# Altium footprint library Conn.Molex.PcbLib: 79 footprints (part 4 of 5)
Each footprint in its own frame and in the unit in brackets; x right, y up, seen from the top. Pads: shape width x height; smd on the part's side, far side on the other; paste and mask are expansions set on the pad; w line width, h text height; cw(c..) or ccw(c..) is an arc to the next point about the centre after c.
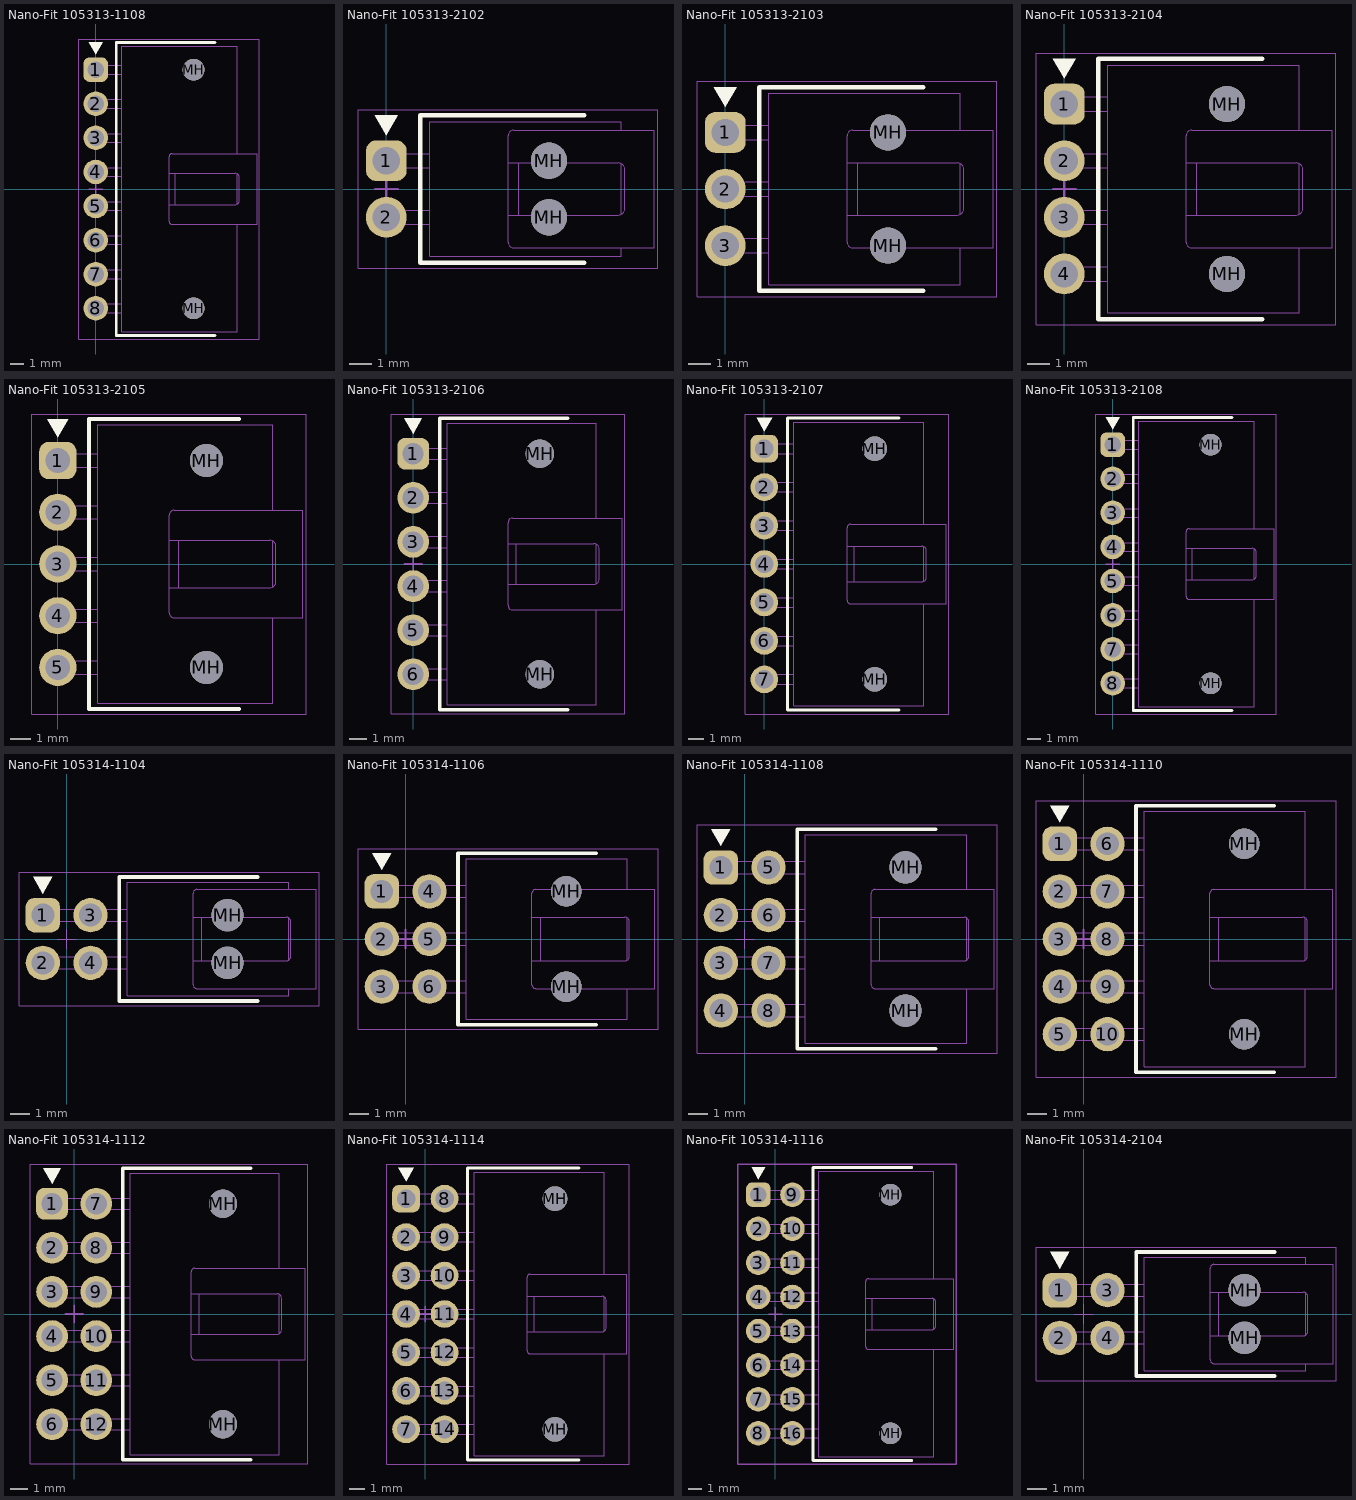
[diagram p3: the footprints below, top view; thin cyan lines are the x and y axes]

## Nano-Fit 105313-1108 [mm] "Molex Nano-Fit Header, 8-Pin, 2.5mm Pitch"
height 6.64
pads (10):
  rrect50% 1.8x1.8 hole 1.2: 1(0,8.75)
  round 1.8 hole 1.2: 2(0,6.25) 3(0,3.75) 4(0,1.25) 5(0,-1.25) 6(0,-3.75) 7(0,-6.25) 8(0,-8.75)
  round 1.6 hole 1.6 unplated: MH(7.18,-8.75) MH(7.18,8.75)
Top Overlay:
  region: 0,9.884 0.5,10.75 -0.5,10.75
  lines w0.2: 8.75,-10.75 1.5,-10.75 1.5,10.75 8.75,10.75
Mechanical 1:
  lines w0.05: 0.617,-9.068 0.617,-8.433 ; 0.617,-6.568 0.617,-5.933 ; 0.617,-4.068 0.617,-3.433 ; 0.617,-1.568 0.617,-0.933 ; 0.617,0.933 0.617,1.568 ; 0.617,3.433 0.617,4.068 ; 0.617,5.933 0.617,6.568 ; 0.617,8.433 0.617,9.068 ; 1.92,-9.068 -0.318,-9.068 -0.318,-8.433 1.92,-8.433 ; 1.92,-6.568 -0.318,-6.568 -0.318,-5.933 1.92,-5.933 ; 1.92,-4.068 -0.318,-4.068 -0.318,-3.433 1.92,-3.433 ; 1.92,-1.568 -0.318,-1.568 -0.318,-0.933 1.92,-0.933 ; 1.92,0.933 -0.318,0.933 -0.318,1.568 1.92,1.568 ; 1.92,3.433 -0.318,3.433 -0.318,4.068 1.92,4.068 ; 1.92,5.933 -0.318,5.933 -0.318,6.568 1.92,6.568 ; 1.92,8.433 -0.318,8.433 -0.318,9.068 1.92,9.068 ; 5.38,-1.15 10.24,-1.15 ccw(c10.24,-0.85) 10.54,-0.85 10.54,0.85 ccw(c10.24,0.85) 10.24,1.15 5.38,1.15 ; 5.84,-1.15 5.84,1.15 ; 10.38,-2.6 10.38,-10.47 1.92,-10.47 1.92,10.47 10.38,10.47 10.38,2.6 ; 10.38,-1.115 10.38,1.115 ; 5.38,-2.35 ccw(c5.63,-2.35) 5.63,-2.6 11.84,-2.6 11.84,2.6 5.63,2.6 ccw(c5.63,2.35) 5.38,2.35 5.38,-2.35
Mechanical 15:
  lines w0.05: -1.25,-11 12,-11 12,11 -1.25,11 -1.25,-11
  lines w0.1: -0.5,0 0.5,0 ; 0,-0.5 0,0.5
3D body "Nano-Fit 105313-1108.stp": height 6.64, standoff -3.2, extent -0.317,-10.47 11.84,10.47

## Nano-Fit 105313-2102 [mm] "Molex Nano-Fit Header, 2-Pin, 2.5mm Pitch"
height 6.64
pads (4):
  rrect50% 1.8x1.8 hole 1.2: 1(0,1.25)
  round 1.8 hole 1.2: 2(0,-1.25)
  round 1.6 hole 1.6 unplated: MH(7.18,-1.25) MH(7.18,1.25)
Top Overlay:
  region: 0,2.384 0.5,3.25 -0.5,3.25
  lines w0.2: 8.75,-3.25 1.5,-3.25 1.5,3.25 8.75,3.25
Mechanical 1:
  lines w0.05: 0.617,-1.568 0.617,-0.933 ; 0.617,0.933 0.617,1.568 ; 1.92,-1.568 -0.318,-1.568 -0.318,-0.933 1.92,-0.933 ; 1.92,0.933 -0.318,0.933 -0.318,1.568 1.92,1.568 ; 5.38,-1.15 10.24,-1.15 ccw(c10.24,-0.85) 10.54,-0.85 10.54,0.85 ccw(c10.24,0.85) 10.24,1.15 5.38,1.15 ; 5.84,-1.15 5.84,1.15 ; 10.38,-2.6 10.38,-2.97 1.92,-2.97 1.92,2.97 10.38,2.97 10.38,2.6 ; 10.38,-1.115 10.38,1.115 ; 5.38,-2.35 ccw(c5.63,-2.35) 5.63,-2.6 11.84,-2.6 11.84,2.6 5.63,2.6 ccw(c5.63,2.35) 5.38,2.35 5.38,-2.35
Mechanical 15:
  lines w0.05: -1.25,-3.5 12,-3.5 12,3.5 -1.25,3.5 -1.25,-3.5
  lines w0.1: -0.5,0 0.5,0 ; 0,-0.5 0,0.5
3D body "Nano-Fit 105313-2102.stp": height 6.64, standoff -3.2, extent -0.318,-2.97 11.84,2.97

## Nano-Fit 105313-2103 [mm] "Molex Nano-Fit Header, 2-Pin, 2.5mm Pitch"
height 6.64
pads (5):
  rrect50% 1.8x1.8 hole 1.2: 1(0,2.5)
  round 1.8 hole 1.2: 2(0,0) 3(0,-2.5)
  round 1.6 hole 1.6 unplated: MH(7.18,-2.5) MH(7.18,2.5)
Top Overlay:
  region: 0,3.634 0.5,4.5 -0.5,4.5
  lines w0.2: 8.75,-4.5 1.5,-4.5 1.5,4.5 8.75,4.5
Mechanical 1:
  lines w0.05: 0.617,-2.818 0.617,-2.183 ; 0.617,-0.318 0.617,0.318 ; 0.617,2.183 0.617,2.818 ; 1.92,-2.818 -0.318,-2.818 -0.318,-2.183 1.92,-2.183 ; 1.92,-0.318 -0.318,-0.318 -0.318,0.318 1.92,0.318 ; 1.92,2.183 -0.318,2.183 -0.318,2.818 1.92,2.818 ; 5.38,-1.15 10.24,-1.15 ccw(c10.24,-0.85) 10.54,-0.85 10.54,0.85 ccw(c10.24,0.85) 10.24,1.15 5.38,1.15 ; 5.84,-1.15 5.84,1.15 ; 10.38,-2.6 10.38,-4.22 1.92,-4.22 1.92,4.22 10.38,4.22 10.38,2.6 ; 10.38,-1.115 10.38,1.115 ; 5.38,-2.35 ccw(c5.63,-2.35) 5.63,-2.6 11.84,-2.6 11.84,2.6 5.63,2.6 ccw(c5.63,2.35) 5.38,2.35 5.38,-2.35
Mechanical 15:
  lines w0.05: -1.25,-4.75 12,-4.75 12,4.75 -1.25,4.75 -1.25,-4.75
  lines w0.1: -0.5,0 0.5,0 ; 0,-0.5 0,0.5
3D body "Nano-Fit 105313-2103.stp": height 6.64, standoff -3.2, extent -0.318,-4.22 11.84,4.22

## Nano-Fit 105313-2104 [mm] "Molex Nano-Fit Header, 4-Pin, 2.5mm Pitch"
height 6.64
pads (6):
  rrect50% 1.8x1.8 hole 1.2: 1(0,3.75)
  round 1.8 hole 1.2: 2(0,1.25) 3(0,-1.25) 4(0,-3.75)
  round 1.6 hole 1.6 unplated: MH(7.18,-3.75) MH(7.18,3.75)
Top Overlay:
  region: 0,4.884 0.5,5.75 -0.5,5.75
  lines w0.2: 8.75,-5.75 1.5,-5.75 1.5,5.75 8.75,5.75
Mechanical 1:
  lines w0.05: 0.617,-4.068 0.617,-3.433 ; 0.617,-1.568 0.617,-0.933 ; 0.617,0.933 0.617,1.568 ; 0.617,3.433 0.617,4.068 ; 1.92,-4.068 -0.318,-4.068 -0.318,-3.433 1.92,-3.433 ; 1.92,-1.568 -0.318,-1.568 -0.318,-0.933 1.92,-0.933 ; 1.92,0.933 -0.318,0.933 -0.318,1.568 1.92,1.568 ; 1.92,3.433 -0.318,3.433 -0.318,4.068 1.92,4.068 ; 5.38,-1.15 10.24,-1.15 ccw(c10.24,-0.85) 10.54,-0.85 10.54,0.85 ccw(c10.24,0.85) 10.24,1.15 5.38,1.15 ; 5.84,-1.15 5.84,1.15 ; 10.38,-2.6 10.38,-5.47 1.92,-5.47 1.92,5.47 10.38,5.47 10.38,2.6 ; 10.38,-1.115 10.38,1.115 ; 5.38,-2.35 ccw(c5.63,-2.35) 5.63,-2.6 11.84,-2.6 11.84,2.6 5.63,2.6 ccw(c5.63,2.35) 5.38,2.35 5.38,-2.35
Mechanical 15:
  lines w0.05: -1.25,-6 12,-6 12,6 -1.25,6 -1.25,-6
  lines w0.1: -0.5,0 0.5,0 ; 0,-0.5 0,0.5
3D body "Nano-Fit 105313-2104.stp": height 6.64, standoff -3.2, extent -0.317,-5.47 11.84,5.47

## Nano-Fit 105313-2105 [mm] "Molex Nano-Fit Header, 5-Pin, 2.5mm Pitch"
height 6.64
pads (7):
  rrect50% 1.8x1.8 hole 1.2: 1(0,5)
  round 1.8 hole 1.2: 2(0,2.5) 3(0,0) 4(0,-2.5) 5(0,-5)
  round 1.6 hole 1.6 unplated: MH(7.18,-5) MH(7.18,5)
Top Overlay:
  region: 0,6.134 0.5,7 -0.5,7
  lines w0.2: 8.75,-7 1.5,-7 1.5,7 8.75,7
Mechanical 1:
  lines w0.05: 0.617,-5.318 0.617,-4.683 ; 0.617,-2.818 0.617,-2.183 ; 0.617,-0.318 0.617,0.318 ; 0.617,2.183 0.617,2.818 ; 0.617,4.683 0.617,5.318 ; 1.92,-5.318 -0.318,-5.318 -0.318,-4.683 1.92,-4.683 ; 1.92,-2.818 -0.318,-2.818 -0.318,-2.183 1.92,-2.183 ; 1.92,-0.318 -0.318,-0.318 -0.318,0.318 1.92,0.318 ; 1.92,2.183 -0.318,2.183 -0.318,2.818 1.92,2.818 ; 1.92,4.683 -0.318,4.683 -0.318,5.318 1.92,5.318 ; 5.38,-1.15 10.24,-1.15 ccw(c10.24,-0.85) 10.54,-0.85 10.54,0.85 ccw(c10.24,0.85) 10.24,1.15 5.38,1.15 ; 5.84,-1.15 5.84,1.15 ; 10.38,-2.6 10.38,-6.72 1.92,-6.72 1.92,6.72 10.38,6.72 10.38,2.6 ; 10.38,-1.115 10.38,1.115 ; 5.38,-2.35 ccw(c5.63,-2.35) 5.63,-2.6 11.84,-2.6 11.84,2.6 5.63,2.6 ccw(c5.63,2.35) 5.38,2.35 5.38,-2.35
Mechanical 15:
  lines w0.05: -1.25,-7.25 -1.25,7.25 12,7.25 12,-7.25 -1.25,-7.25
  lines w0.1: -0.5,0 0.5,0 ; 0,-0.5 0,0.5
3D body "Nano-Fit 105313-2105.stp": height 6.64, standoff -3.2, extent -0.317,-6.72 11.84,6.72

## Nano-Fit 105313-2106 [mm] "Molex Nano-Fit Header, 6-Pin, 2.5mm Pitch"
height 6.64
pads (8):
  rrect50% 1.8x1.8 hole 1.2: 1(0,6.25)
  round 1.8 hole 1.2: 2(0,3.75) 3(0,1.25) 4(0,-1.25) 5(0,-3.75) 6(0,-6.25)
  round 1.6 hole 1.6 unplated: MH(7.18,-6.25) MH(7.18,6.25)
Top Overlay:
  region: 0,7.384 0.5,8.25 -0.5,8.25
  lines w0.2: 8.75,-8.25 1.5,-8.25 1.5,8.25 8.75,8.25
Mechanical 1:
  lines w0.05: 0.617,-6.568 0.617,-5.933 ; 0.617,-4.068 0.617,-3.433 ; 0.617,-1.568 0.617,-0.933 ; 0.617,0.933 0.617,1.568 ; 0.617,3.433 0.617,4.068 ; 0.617,5.933 0.617,6.568 ; 1.92,-6.568 -0.318,-6.568 -0.318,-5.933 1.92,-5.933 ; 1.92,-4.068 -0.318,-4.068 -0.318,-3.433 1.92,-3.433 ; 1.92,-1.568 -0.318,-1.568 -0.318,-0.933 1.92,-0.933 ; 1.92,0.933 -0.318,0.933 -0.318,1.568 1.92,1.568 ; 1.92,3.433 -0.318,3.433 -0.318,4.068 1.92,4.068 ; 1.92,5.933 -0.318,5.933 -0.318,6.568 1.92,6.568 ; 5.38,-1.15 10.24,-1.15 ccw(c10.24,-0.85) 10.54,-0.85 10.54,0.85 ccw(c10.24,0.85) 10.24,1.15 5.38,1.15 ; 5.84,-1.15 5.84,1.15 ; 10.38,-2.6 10.38,-7.97 1.92,-7.97 1.92,7.97 10.38,7.97 10.38,2.6 ; 10.38,-1.115 10.38,1.115 ; 5.38,-2.35 ccw(c5.63,-2.35) 5.63,-2.6 11.84,-2.6 11.84,2.6 5.63,2.6 ccw(c5.63,2.35) 5.38,2.35 5.38,-2.35
Mechanical 15:
  lines w0.05: -1.25,-8.5 12,-8.5 12,8.5 -1.25,8.5 -1.25,-8.5
  lines w0.1: -0.5,0 0.5,0 ; 0,-0.5 0,0.5
3D body "Nano-Fit 105313-2106.stp": height 6.64, standoff -3.2, extent -0.317,-7.97 11.84,7.97

## Nano-Fit 105313-2107 [mm] "Molex Nano-Fit Header, 7-Pin, 2.5mm Pitch"
height 6.64
pads (9):
  rrect50% 1.8x1.8 hole 1.2: 1(0,7.5)
  round 1.8 hole 1.2: 2(0,5) 3(0,2.5) 4(0,0) 5(0,-2.5) 6(0,-5) 7(0,-7.5)
  round 1.6 hole 1.6 unplated: MH(7.18,-7.5) MH(7.18,7.5)
Top Overlay:
  region: 0,8.634 0.5,9.5 -0.5,9.5
  lines w0.2: 8.75,-9.5 1.5,-9.5 1.5,9.5 8.75,9.5
Mechanical 1:
  lines w0.05: 0.617,-7.818 0.617,-7.183 ; 0.617,-5.318 0.617,-4.683 ; 0.617,-2.818 0.617,-2.183 ; 0.617,-0.318 0.617,0.318 ; 0.617,2.183 0.617,2.818 ; 0.617,4.683 0.617,5.318 ; 0.617,7.183 0.617,7.818 ; 1.92,-7.818 -0.318,-7.818 -0.318,-7.183 1.92,-7.183 ; 1.92,-5.318 -0.318,-5.318 -0.318,-4.683 1.92,-4.683 ; 1.92,-2.818 -0.318,-2.818 -0.318,-2.183 1.92,-2.183 ; 1.92,-0.318 -0.318,-0.318 -0.318,0.318 1.92,0.318 ; 1.92,2.183 -0.318,2.183 -0.318,2.818 1.92,2.818 ; 1.92,4.683 -0.318,4.683 -0.318,5.318 1.92,5.318 ; 1.92,7.183 -0.318,7.183 -0.318,7.818 1.92,7.818 ; 5.38,-1.15 10.24,-1.15 ccw(c10.24,-0.85) 10.54,-0.85 10.54,0.85 ccw(c10.24,0.85) 10.24,1.15 5.38,1.15 ; 5.84,-1.15 5.84,1.15 ; 10.38,-2.6 10.38,-9.22 1.92,-9.22 1.92,9.22 10.38,9.22 10.38,2.6 ; 10.38,-1.115 10.38,1.115 ; 5.38,-2.35 ccw(c5.63,-2.35) 5.63,-2.6 11.84,-2.6 11.84,2.6 5.63,2.6 ccw(c5.63,2.35) 5.38,2.35 5.38,-2.35
Mechanical 15:
  lines w0.05: -1.25,-9.75 12,-9.75 12,9.75 -1.25,9.75 -1.25,-9.75
  lines w0.1: -0.5,0 0.5,0 ; 0,-0.5 0,0.5
3D body "Nano-Fit 105313-2107.stp": height 6.64, standoff -3.2, extent -0.317,-9.22 11.84,9.22

## Nano-Fit 105313-2108 [mm] "Molex Nano-Fit Header, 8-Pin, 2.5mm Pitch"
height 6.64
pads (10):
  rrect50% 1.8x1.8 hole 1.2: 1(0,8.75)
  round 1.8 hole 1.2: 2(0,6.25) 3(0,3.75) 4(0,1.25) 5(0,-1.25) 6(0,-3.75) 7(0,-6.25) 8(0,-8.75)
  round 1.6 hole 1.6 unplated: MH(7.18,-8.75) MH(7.18,8.75)
Top Overlay:
  region: 0,9.884 0.5,10.75 -0.5,10.75
  lines w0.2: 8.75,-10.75 1.5,-10.75 1.5,10.75 8.75,10.75
Mechanical 1:
  lines w0.05: 0.617,-9.068 0.617,-8.433 ; 0.617,-6.568 0.617,-5.933 ; 0.617,-4.068 0.617,-3.433 ; 0.617,-1.568 0.617,-0.933 ; 0.617,0.933 0.617,1.568 ; 0.617,3.433 0.617,4.068 ; 0.617,5.933 0.617,6.568 ; 0.617,8.433 0.617,9.068 ; 1.92,-9.068 -0.318,-9.068 -0.318,-8.433 1.92,-8.433 ; 1.92,-6.568 -0.318,-6.568 -0.318,-5.933 1.92,-5.933 ; 1.92,-4.068 -0.318,-4.068 -0.318,-3.433 1.92,-3.433 ; 1.92,-1.568 -0.318,-1.568 -0.318,-0.933 1.92,-0.933 ; 1.92,0.933 -0.318,0.933 -0.318,1.568 1.92,1.568 ; 1.92,3.433 -0.318,3.433 -0.318,4.068 1.92,4.068 ; 1.92,5.933 -0.318,5.933 -0.318,6.568 1.92,6.568 ; 1.92,8.433 -0.318,8.433 -0.318,9.068 1.92,9.068 ; 5.38,-1.15 10.24,-1.15 ccw(c10.24,-0.85) 10.54,-0.85 10.54,0.85 ccw(c10.24,0.85) 10.24,1.15 5.38,1.15 ; 5.84,-1.15 5.84,1.15 ; 10.38,-2.6 10.38,-10.47 1.92,-10.47 1.92,10.47 10.38,10.47 10.38,2.6 ; 10.38,-1.115 10.38,1.115 ; 5.38,-2.35 ccw(c5.63,-2.35) 5.63,-2.6 11.84,-2.6 11.84,2.6 5.63,2.6 ccw(c5.63,2.35) 5.38,2.35 5.38,-2.35
Mechanical 15:
  lines w0.05: -1.25,-11 12,-11 12,11 -1.25,11 -1.25,-11
  lines w0.1: -0.5,0 0.5,0 ; 0,-0.5 0,0.5
3D body "Nano-Fit 105313-2108.stp": height 6.64, standoff -3.2, extent -0.317,-10.47 11.84,10.47

## Nano-Fit 105314-1104 [mm] "Molex Nano-Fit Header, 4-Pin, 2.5mm Pitch"
height 9.14
pads (6):
  rrect50% 1.8x1.8 hole 1.2: 1(-1.25,1.25)
  round 1.8 hole 1.2: 2(-1.25,-1.25) 3(1.25,1.25) 4(1.25,-1.25)
  round 1.7 hole 1.7 unplated: MH(8.43,-1.25) MH(8.43,1.25)
Top Overlay:
  region: -1.25,2.384 -0.75,3.25 -1.75,3.25
  lines w0.2: 10,-3.25 2.75,-3.25 2.75,3.25 10,3.25
Mechanical 1:
  lines w0.05: -0.633,-1.568 -0.633,-0.933 ; -0.633,0.933 -0.633,1.568 ; 3.17,-1.568 -1.568,-1.568 -1.568,-0.933 3.17,-0.933 ; 3.17,0.933 -1.568,0.933 -1.568,1.568 3.17,1.568 ; 6.63,-1.15 11.5,-1.15 ccw(c11.5,-0.9) 11.75,-0.9 11.75,0.9 ccw(c11.5,0.9) 11.5,1.15 6.63,1.15 ; 7.09,-1.15 7.09,1.15 ; 11.63,-2.6 11.63,-2.97 3.17,-2.97 3.17,2.97 11.63,2.97 11.63,2.6 ; 11.63,-1.114 11.63,1.114 ; 6.63,-2.4 ccw(c6.83,-2.4) 6.83,-2.6 13.09,-2.6 13.09,2.6 6.83,2.6 ccw(c6.83,2.4) 6.63,2.4 6.63,-2.4
Mechanical 15:
  lines w0.05: -0.5,0 0.5,0 ; 0,-0.5 0,0.5 ; -2.5,-3.5 -2.5,3.5 13.225,3.5 13.225,-3.5 -2.5,-3.5
3D body "Nano-Fit 105314-1104.STEP": height 9.14, standoff -3.2, extent -1.567,-2.97 13.09,2.97

## Nano-Fit 105314-1106 [mm] "Nano-Fit Header, Dual Row, 6-Lead, 2.50mm Pitch"
height 9.14
pads (8):
  rrect50% 1.8x1.8 hole 1.2: 1(-1.25,2.5)
  round 1.8 hole 1.2: 2(-1.25,0) 3(-1.25,-2.5) 4(1.25,2.5) 5(1.25,0) 6(1.25,-2.5)
  round 1.6 hole 1.6 unplated: MH(8.43,-2.5) MH(8.43,2.5)
Top Overlay:
  region: -1.25,3.634 -0.75,4.5 -1.75,4.5
  lines w0.2: 10,-4.5 2.75,-4.5 2.75,4.5 10,4.5
Mechanical 1:
  lines w0.05: -0.633,-2.818 -0.633,-2.183 ; -0.633,-0.318 -0.633,0.318 ; -0.633,2.183 -0.633,2.818 ; 3.17,-2.818 -1.568,-2.818 -1.568,-2.183 3.17,-2.183 ; 3.17,-0.318 -1.568,-0.318 -1.568,0.318 3.17,0.318 ; 3.17,2.183 -1.568,2.183 -1.568,2.818 3.17,2.818 ; 6.63,-1.15 11.5,-1.15 ccw(c11.5,-0.9) 11.75,-0.9 11.75,0.9 ccw(c11.5,0.9) 11.5,1.15 6.63,1.15 ; 7.09,-1.15 7.09,1.15 ; 11.63,-2.6 11.63,-4.22 3.17,-4.22 3.17,4.22 11.63,4.22 11.63,2.6 ; 11.63,-1.114 11.63,1.114 ; 6.63,-2.4 ccw(c6.83,-2.4) 6.83,-2.6 13.09,-2.6 13.09,2.6 6.83,2.6 ccw(c6.83,2.4) 6.63,2.4 6.63,-2.4
Mechanical 15:
  lines w0.05: -2.5,-4.75 13.25,-4.75 13.25,4.75 -2.5,4.75 -2.5,-4.75
  lines w0.1: -0.5,0 0.5,0 ; 0,-0.5 0,0.5
3D body "Nano-Fit 105314-1106.STEP": height 9.14, standoff -3.2, extent -1.567,-4.22 13.09,4.22

## Nano-Fit 105314-1108 [mm] "Molex Nano-Fit Header, 8-Pin, 2.5mm Pitch"
height 9.14
pads (10):
  rrect50% 1.8x1.8 hole 1.2: 1(-1.25,3.75)
  round 1.8 hole 1.2: 2(-1.25,1.25) 3(-1.25,-1.25) 4(-1.25,-3.75) 5(1.25,3.75) 6(1.25,1.25) 7(1.25,-1.25) 8(1.25,-3.75)
  round 1.7 hole 1.7 unplated: MH(8.43,-3.75) MH(8.43,3.75)
Top Overlay:
  region: -1.25,4.884 -0.75,5.75 -1.75,5.75
  lines w0.2: 10,-5.75 2.75,-5.75 2.75,5.75 10,5.75
Mechanical 1:
  lines w0.05: -0.632,-4.067 -0.632,-3.432 ; -0.632,-1.567 -0.632,-0.932 ; -0.632,0.933 -0.632,1.568 ; -0.632,3.433 -0.632,4.068 ; 3.17,-4.067 -1.567,-4.067 -1.567,-3.432 3.17,-3.432 ; 3.17,-1.567 -1.567,-1.567 -1.567,-0.932 3.17,-0.932 ; 3.17,0.933 -1.567,0.933 -1.567,1.568 3.17,1.568 ; 3.17,3.433 -1.567,3.433 -1.567,4.068 3.17,4.068 ; 6.63,-1.15 11.5,-1.15 ccw(c11.5,-0.9) 11.75,-0.9 11.75,0.9 ccw(c11.5,0.9) 11.5,1.15 6.63,1.15 ; 7.09,-1.15 7.09,1.15 ; 11.63,-2.6 11.63,-5.47 3.17,-5.47 3.17,5.47 11.63,5.47 11.63,2.6 ; 11.63,-1.113 11.63,1.114 ; 6.63,-2.4 ccw(c6.83,-2.4) 6.83,-2.6 13.09,-2.6 13.09,2.6 6.83,2.6 ccw(c6.83,2.4) 6.63,2.4 6.63,-2.4
Mechanical 15:
  lines w0.05: -0.5,0 0.5,0 ; 0,-0.5 0,0.5 ; -2.5,-6 -2.5,6 13.225,6 13.225,-6 -2.5,-6
3D body "Nano-Fit 105314-1108.STEP": height 9.14, standoff -3.2, extent -1.567,-5.47 13.09,5.47

## Nano-Fit 105314-1110 [mm] "Nano-Fit Header, Dual Row, 10-Lead, 2.50mm Pitch"
height 9.14
pads (12):
  rrect50% 1.8x1.8 hole 1.2: 1(-1.25,5)
  round 1.8 hole 1.2: 2(-1.25,2.5) 3(-1.25,0) 4(-1.25,-2.5) 5(-1.25,-5) 6(1.25,5) 7(1.25,2.5) 8(1.25,0) 9(1.25,-2.5) 10(1.25,-5)
  round 1.6 hole 1.6 unplated: MH(8.43,-5) MH(8.43,5)
Top Overlay:
  region: -1.25,6.134 -0.75,7 -1.75,7
  lines w0.2: 10,-7 2.75,-7 2.75,7 10,7
Mechanical 1:
  lines w0.05: -0.633,-5.318 -0.633,-4.683 ; -0.633,-2.818 -0.633,-2.183 ; -0.633,-0.318 -0.633,0.318 ; -0.633,2.183 -0.633,2.818 ; -0.633,4.683 -0.633,5.318 ; 3.17,-5.318 -1.568,-5.318 -1.568,-4.683 3.17,-4.683 ; 3.17,-2.818 -1.568,-2.818 -1.568,-2.183 3.17,-2.183 ; 3.17,-0.318 -1.568,-0.318 -1.568,0.318 3.17,0.318 ; 3.17,2.183 -1.568,2.183 -1.568,2.818 3.17,2.818 ; 3.17,4.683 -1.568,4.683 -1.568,5.318 3.17,5.318 ; 6.63,-1.15 11.5,-1.15 ccw(c11.5,-0.9) 11.75,-0.9 11.75,0.9 ccw(c11.5,0.9) 11.5,1.15 6.63,1.15 ; 7.09,-1.15 7.09,1.15 ; 11.63,-2.6 11.63,-6.72 3.17,-6.72 3.17,6.72 11.63,6.72 11.63,2.6 ; 11.63,-1.114 11.63,1.114 ; 6.63,-2.4 ccw(c6.83,-2.4) 6.83,-2.6 13.09,-2.6 13.09,2.6 6.83,2.6 ccw(c6.83,2.4) 6.63,2.4 6.63,-2.4
Mechanical 15:
  lines w0.05: -2.5,-7.25 -2.5,7.25 13.25,7.25 13.25,-7.25 -2.5,-7.25
  lines w0.1: -0.5,0 0.5,0 ; 0,-0.5 0,0.5
3D body "Nano-Fit 105314-1110.STEP": height 9.14, standoff -3.2, extent -1.567,-6.72 13.09,6.72

## Nano-Fit 105314-1112 [mm] "Nano-Fit Header, Dual Row, 12-Lead, 2.50mm Pitch"
height 9.14
pads (14):
  rrect50% 1.8x1.8 hole 1.2: 1(-1.25,6.25)
  round 1.8 hole 1.2: 2(-1.25,3.75) 3(-1.25,1.25) 4(-1.25,-1.25) 5(-1.25,-3.75) 6(-1.25,-6.25) 7(1.25,6.25) 8(1.25,3.75) 9(1.25,1.25) 10(1.25,-1.25) 11(1.25,-3.75) 12(1.25,-6.25)
  round 1.6 hole 1.6 unplated: MH(8.43,-6.25) MH(8.43,6.25)
Top Overlay:
  region: -1.25,7.384 -0.75,8.25 -1.75,8.25
  lines w0.2: 10,-8.25 2.75,-8.25 2.75,8.25 10,8.25
Mechanical 1:
  lines w0.05: -0.632,-6.567 -0.632,-5.932 ; -0.632,-4.067 -0.632,-3.432 ; -0.632,-1.567 -0.632,-0.932 ; -0.632,0.933 -0.632,1.568 ; -0.632,3.433 -0.632,4.068 ; -0.632,5.933 -0.632,6.568 ; 3.17,-6.567 -1.567,-6.567 -1.567,-5.932 3.17,-5.932 ; 3.17,-4.067 -1.567,-4.067 -1.567,-3.432 3.17,-3.432 ; 3.17,-1.567 -1.567,-1.567 -1.567,-0.932 3.17,-0.932 ; 3.17,0.933 -1.567,0.933 -1.567,1.568 3.17,1.568 ; 3.17,3.433 -1.567,3.433 -1.567,4.068 3.17,4.068 ; 3.17,5.933 -1.567,5.933 -1.567,6.568 3.17,6.568 ; 6.63,-1.15 11.5,-1.15 ccw(c11.5,-0.9) 11.75,-0.9 11.75,0.9 ccw(c11.5,0.9) 11.5,1.15 6.63,1.15 ; 7.09,-1.15 7.09,1.15 ; 11.63,-2.6 11.63,-7.97 3.17,-7.97 3.17,7.97 11.63,7.97 11.63,2.6 ; 11.63,-1.113 11.63,1.114 ; 6.63,-2.4 ccw(c6.83,-2.4) 6.83,-2.6 13.09,-2.6 13.09,2.6 6.83,2.6 ccw(c6.83,2.4) 6.63,2.4 6.63,-2.4
Mechanical 15:
  lines w0.05: -2.5,-8.5 13.25,-8.5 13.25,8.5 -2.5,8.5 -2.5,-8.5
  lines w0.1: -0.5,0 0.5,0 ; 0,-0.5 0,0.5
3D body "Nano-Fit 105314-1112.STEP": height 9.14, standoff -3.2, extent -1.567,-7.97 13.09,7.97

## Nano-Fit 105314-1114 [mm] "Nano-Fit Header, Dual Row, 14-Lead, 2.50mm Pitch"
height 9.14
pads (16):
  rrect50% 1.8x1.8 hole 1.2: 1(-1.25,7.5)
  round 1.8 hole 1.2: 2(-1.25,5) 3(-1.25,2.5) 4(-1.25,0) 5(-1.25,-2.5) 6(-1.25,-5) 7(-1.25,-7.5) 8(1.25,7.5) 9(1.25,5) 10(1.25,2.5) 11(1.25,0) 12(1.25,-2.5) 13(1.25,-5) 14(1.25,-7.5)
  round 1.6 hole 1.6 unplated: MH(8.43,-7.5) MH(8.43,7.5)
Top Overlay:
  region: -1.25,8.634 -0.75,9.5 -1.75,9.5
  lines w0.2: 10,-9.5 2.75,-9.5 2.75,9.5 10,9.5
Mechanical 1:
  lines w0.05: -0.633,-7.818 -0.633,-7.183 ; -0.633,-5.318 -0.633,-4.683 ; -0.633,-2.818 -0.633,-2.183 ; -0.633,-0.318 -0.633,0.318 ; -0.633,2.183 -0.633,2.818 ; -0.633,4.683 -0.633,5.318 ; -0.633,7.183 -0.633,7.818 ; 3.17,-7.818 -1.568,-7.818 -1.568,-7.183 3.17,-7.183 ; 3.17,-5.318 -1.568,-5.318 -1.568,-4.683 3.17,-4.683 ; 3.17,-2.818 -1.568,-2.818 -1.568,-2.183 3.17,-2.183 ; 3.17,-0.318 -1.568,-0.318 -1.568,0.318 3.17,0.318 ; 3.17,2.183 -1.568,2.183 -1.568,2.818 3.17,2.818 ; 3.17,4.683 -1.568,4.683 -1.568,5.318 3.17,5.318 ; 3.17,7.183 -1.568,7.183 -1.568,7.818 3.17,7.818 ; 6.63,-1.15 11.5,-1.15 ccw(c11.5,-0.9) 11.75,-0.9 11.75,0.9 ccw(c11.5,0.9) 11.5,1.15 6.63,1.15 ; 7.09,-1.15 7.09,1.15 ; 11.63,-2.6 11.63,-9.22 3.17,-9.22 3.17,9.22 11.63,9.22 11.63,2.6 ; 11.63,-1.114 11.63,1.114 ; 6.63,-2.4 ccw(c6.83,-2.4) 6.83,-2.6 13.09,-2.6 13.09,2.6 6.83,2.6 ccw(c6.83,2.4) 6.63,2.4 6.63,-2.4
Mechanical 15:
  lines w0.05: -2.5,-9.75 13.25,-9.75 13.25,9.75 -2.5,9.75 -2.5,-9.75
  lines w0.1: -0.5,0 0.5,0 ; 0,-0.5 0,0.5
3D body "Nano-Fit 105314-1114.STEP": height 9.14, standoff -3.2, extent -1.567,-9.22 13.09,9.22

## Nano-Fit 105314-1116 [mm] "Molex Nano-Fit Header, 16-Pin, 2.5mm Pitch"
pads (18):
  rrect50% 1.8x1.8 hole 1.2: 1(-1.25,8.75)
  round 1.8 hole 1.2: 2(-1.25,6.25) 3(-1.25,3.75) 4(-1.25,1.25) 5(-1.25,-1.25) 6(-1.25,-3.75) 7(-1.25,-6.25) 8(-1.25,-8.75) 9(1.25,8.75) 10(1.25,6.25) 11(1.25,3.75) 12(1.25,1.25) 13(1.25,-1.25) 14(1.25,-3.75) 15(1.25,-6.25) 16(1.25,-8.75)
  round 1.6 hole 1.6 unplated: MH(8.43,-8.75) MH(8.43,8.75)
Top Overlay:
  region: -1.25,9.884 -0.75,10.75 -1.75,10.75
  lines w0.2: 10,-10.75 2.75,-10.75 2.75,10.75 10,10.75
Mechanical 1:
  lines w0.05: 3.17,-9.068 -0.633,-9.068 -1.568,-9.068 -1.568,-8.433 -0.633,-8.433 3.17,-8.433 ; 3.17,-6.568 -0.633,-6.568 -1.568,-6.568 -1.568,-5.933 -0.633,-5.933 3.17,-5.933 ; 3.17,-4.068 -0.633,-4.068 -1.568,-4.068 -1.568,-3.433 -0.633,-3.433 3.17,-3.433 ; 3.17,-1.568 -0.633,-1.568 -1.568,-1.568 -1.568,-0.933 -0.633,-0.933 3.17,-0.933 ; 3.17,0.933 -0.633,0.933 -1.568,0.933 -1.568,1.568 -0.633,1.568 3.17,1.568 ; 3.17,3.433 -0.633,3.433 -1.568,3.433 -1.568,4.068 -0.633,4.068 3.17,4.068 ; 3.17,5.933 -0.633,5.933 -1.568,5.933 -1.568,6.568 -0.633,6.568 3.17,6.568 ; 3.17,8.433 -0.633,8.433 -1.568,8.433 -1.568,9.068 -0.633,9.068 3.17,9.068 ; 7.09,-1.15 7.09,1.15 ; 11.63,-2.6 11.63,-10.47 3.17,-10.47 3.17,10.47 11.63,10.47 11.63,2.6 ; 11.63,-1.114 11.63,1.114 ; 6.63,-1.15 6.83,-1.15 11.5,-1.15 ccw(c11.5,-0.9) 11.75,-0.9 11.75,0.9 ccw(c11.5,0.9) 11.5,1.15 6.83,1.15 6.63,1.15 ; 6.63,-1.15 6.63,1.15 ; 6.63,-1.15 6.63,-2.4 ccw(c6.83,-2.4) 6.83,-2.6 13.09,-2.6 13.09,-2.4 13.09,2.4 13.09,2.6 6.83,2.6 ccw(c6.83,2.4) 6.63,2.4 6.63,1.15
Mechanical 15:
  lines w0.1: -0.5,0 0.5,0 ; 0,-0.5 0,0.5 ; -2.75,-11 13.25,-11 13.25,11 -2.75,11 -2.75,-11
3D body "Nano-Fit 105314-1116.STEP": height 9.15, standoff -3.19, extent -1.568,-10.47 13.09,10.47

## Nano-Fit 105314-2104 [mm] "Molex Nano-Fit Header, 4-Pin, 2.5mm Pitch"
height 9.14
pads (6):
  rrect50% 1.8x1.8 hole 1.2: 1(-1.25,1.25)
  round 1.8 hole 1.2: 2(-1.25,-1.25) 3(1.25,1.25) 4(1.25,-1.25)
  round 1.7 hole 1.7 unplated: MH(8.43,-1.25) MH(8.43,1.25)
Top Overlay:
  region: -1.25,2.384 -0.75,3.25 -1.75,3.25
  lines w0.2: 10,-3.25 2.75,-3.25 2.75,3.25 10,3.25
Mechanical 1:
  lines w0.05: -0.633,-1.568 -0.633,-0.933 ; -0.633,0.933 -0.633,1.568 ; 3.17,-1.568 -1.568,-1.568 -1.568,-0.933 3.17,-0.933 ; 3.17,0.933 -1.568,0.933 -1.568,1.568 3.17,1.568 ; 6.63,-1.15 11.5,-1.15 ccw(c11.5,-0.9) 11.75,-0.9 11.75,0.9 ccw(c11.5,0.9) 11.5,1.15 6.63,1.15 ; 7.09,-1.15 7.09,1.15 ; 11.63,-2.6 11.63,-2.97 3.17,-2.97 3.17,2.97 11.63,2.97 11.63,2.6 ; 11.63,-1.114 11.63,1.114 ; 6.63,-2.4 ccw(c6.83,-2.4) 6.83,-2.6 13.09,-2.6 13.09,2.6 6.83,2.6 ccw(c6.83,2.4) 6.63,2.4 6.63,-2.4
Mechanical 15:
  lines w0.05: -0.5,0 0.5,0 ; 0,-0.5 0,0.5 ; -2.5,-3.5 -2.5,3.5 13.225,3.5 13.225,-3.5 -2.5,-3.5
3D body "Nano-Fit 105314-2104.stp": height 9.14, standoff -3.2, extent -1.567,-2.97 13.09,2.97